# EAGLE library part 687333124422 (library Eagle_FPC_CONNECTOR_AND_FFC_CAB (rev18c))
WR-FPC-0.50mm SMT ZIF Vertical Type A,pins 33 Pins=>Code : Con_FPC_ZIF_0.50_687333124422 <http://katalog.we-online.de/media/images/eican/Con_FPC_ZIF_0.50_6873xx124422_pf2.jpg> Details see: http://katalog.we-online.de/en/em/687_3xx_124_422 Created 2014-07-09, Karrer Zheng 2014 (C) Würth Elektronik
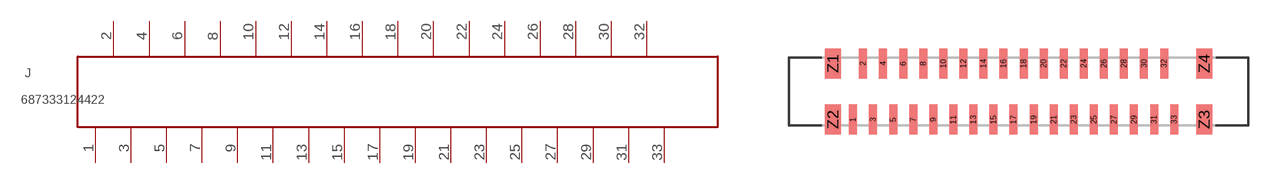
[diagram p86: symbol with the pads of 687333124422; footprint 687333124422]

Designator prefix J

## 687333124422  [687333124422]
1  1  pas
2  2  pas
3  3  pas
4  4  pas
5  5  pas
6  6  pas
7  7  pas
8  8  pas
9  9  pas
10  10  pas
11  11  pas
12  12  pas
13  13  pas
14  14  pas
15  15  pas
16  16  pas
17  17  pas
18  18  pas
19  19  pas
20  20  pas
21  21  pas
22  22  pas
23  23  pas
24  24  pas
25  25  pas
26  26  pas
27  27  pas
28  28  pas
29  29  pas
30  30  pas
31  31  pas
32  32  pas
33  33  pas

## Footprint 687333124422 (pad centres in mm)
WR-FPC-0.50mm SMT ZIF Vertical Type A,pins 33
smd 0.4 x 1.5: 1 -8.25,-1.4; 2 -7.75,1.4; 3 -7.25,-1.4; 4 -6.75,1.4; 5 -6.25,-1.4; 6 -5.75,1.4; 7 -5.25,-1.4; 8 -4.75,1.4; 9 -4.25,-1.4; 10 -3.75,1.4; 11 -3.25,-1.4; 12 -2.75,1.4; 13 -2.25,-1.4; 14 -1.75,1.4; 15 -1.25,-1.4; 16 -0.75,1.4; 17 -0.25,-1.4; 18 0.25,1.4; 19 0.75,-1.4; 20 1.25,1.4; 21 1.75,-1.4; 22 2.25,1.4; 23 2.75,-1.4; 24 3.25,1.4; 25 3.75,-1.4; 26 4.25,1.4; 27 4.75,-1.4; 28 5.25,1.4; 29 5.75,-1.4; 30 6.25,1.4; 31 6.75,-1.4; 32 7.25,1.4; 33 7.75,-1.4
smd 0.8 x 1.5: Z1 -9.25,1.4; Z2 -9.25,-1.4; Z3 9.25,-1.4; Z4 9.25,1.4